# Altium footprint library PcbLib1.PcbLib: 26 footprints (part 2 of 2)
Each footprint in its own frame and in the unit in brackets; x right, y up, seen from the top. Pads: shape width x height; smd on the part's side, far side on the other; paste and mask are expansions set on the pad; w line width, h text height; cw(c..) or ccw(c..) is an arc to the next point about the centre after c.
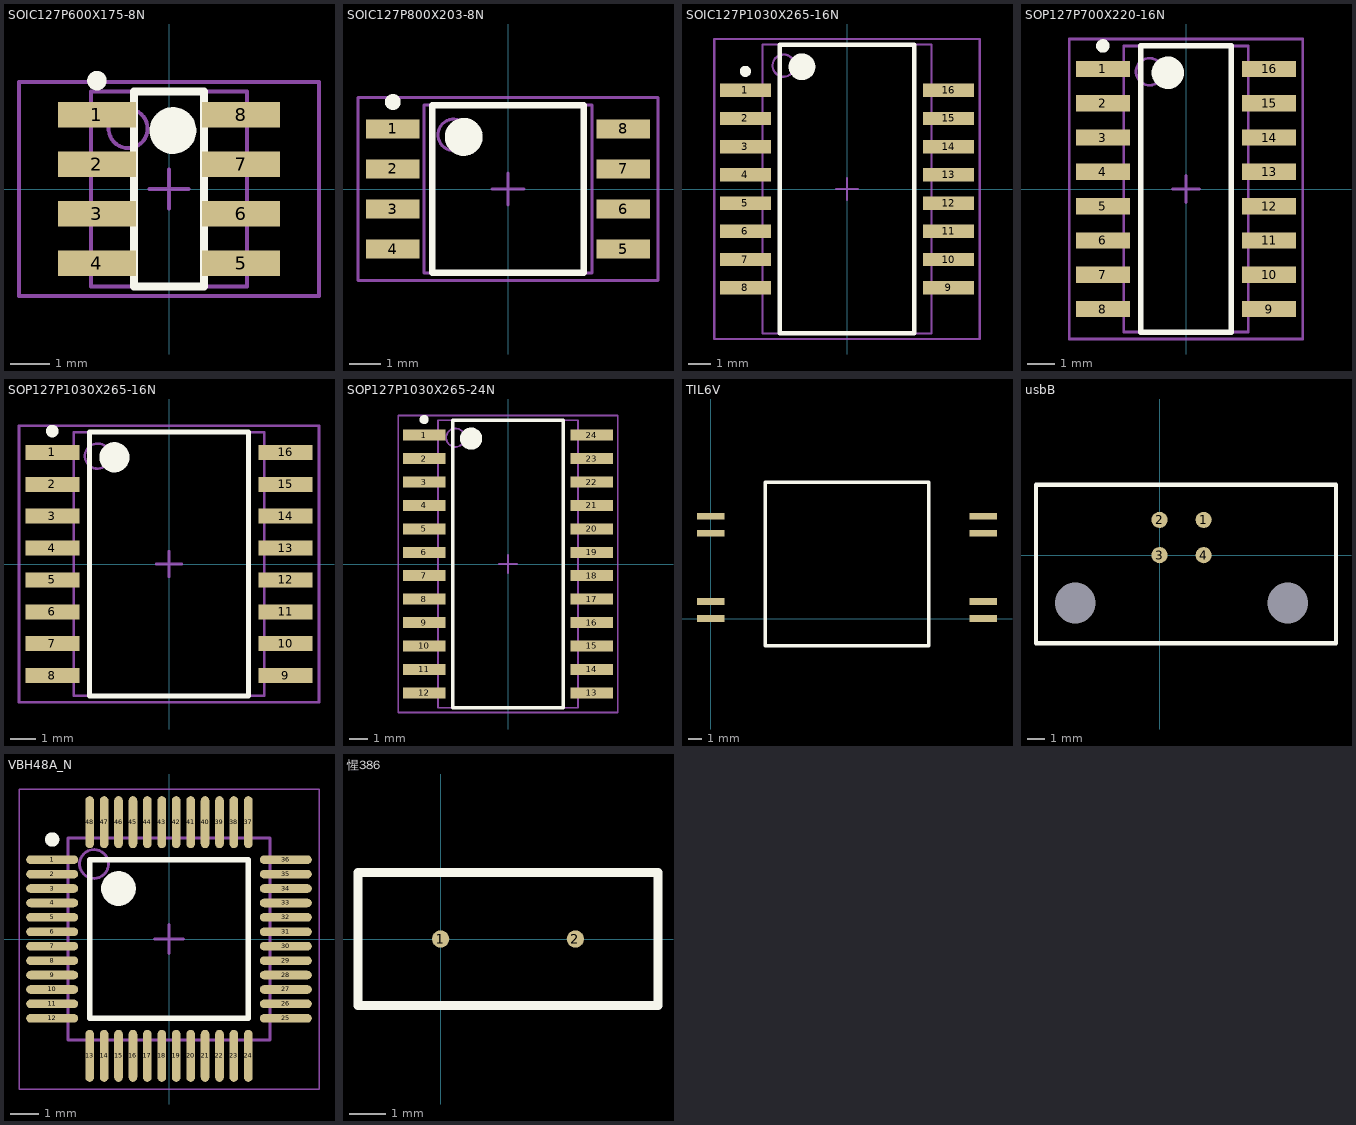
[diagram p1: the footprints below, top view; thin cyan lines are the x and y axes]

## SOIC127P600X175-8N [mm] "FM25L16"
height 1.75
pads (8):
  rect 2x0.65 smd: 1(-1.85,1.905) 2(-1.85,0.635) 3(-1.85,-0.635) 4(-1.85,-1.905) 5(1.85,-1.905) 6(1.85,-0.635) 7(1.85,0.635) 8(1.85,1.905)
Top Overlay:
  circle w0.6: c0.1,1.5 r0.3
  circle w0.25: c-1.85,2.78 r0.125
  lines w0.2: -0.9,-2.5 0.9,-2.5 0.9,2.5 -0.9,2.5 -0.9,-2.5
Mechanical 13:
  circle w0.1: c-1.05,1.55 r0.5
  lines w0.1: -2,-2.5 2,-2.5 2,2.5 -2,2.5 -2,-2.5
Mechanical 15:
  lines w0.1: -0.5,0 0.5,0 ; 0,-0.5 0,0.5 ; -3.85,-2.75 3.85,-2.75 3.85,2.75 -3.85,2.75 -3.85,-2.75
3D body: height 1.75, standoff 0.1, extent -2,-2.5 2,2.5

## SOIC127P800X203-8N [mm] "FM25V20"
height 2.03
pads (8):
  rect 1.7x0.6 smd: 1(-3.65,1.905) 2(-3.65,0.635) 3(-3.65,-0.635) 4(-3.65,-1.905) 5(3.65,-1.905) 6(3.65,-0.635) 7(3.65,0.635) 8(3.65,1.905)
Top Overlay:
  circle w0.6: c-1.4,1.65 r0.3
  circle w0.25: c-3.65,2.755 r0.125
  lines w0.2: -2.4,-2.65 2.4,-2.65 2.4,2.65 -2.4,2.65 -2.4,-2.65
Mechanical 13:
  circle w0.1: c-1.715,1.715 r0.5
  lines w0.1: -2.665,-2.665 2.665,-2.665 2.665,2.665 -2.665,2.665 -2.665,-2.665
Mechanical 15:
  lines w0.1: -0.5,0 0.5,0 ; 0,-0.5 0,0.5 ; -4.75,-2.9 4.75,-2.9 4.75,2.9 -4.75,2.9 -4.75,-2.9
3D body: height 2.03, standoff 0.25, extent -2.665,-2.665 2.665,2.665

## SOIC127P1030X265-16N [mm] "ADUM4160"
height 2.65
pads (16):
  rect 2.3x0.6 smd: 1(-4.575,4.445) 2(-4.575,3.175) 3(-4.575,1.905) 4(-4.575,0.635) 5(-4.575,-0.635) 6(-4.575,-1.905) 7(-4.575,-3.175) 8(-4.575,-4.445) 9(4.575,-4.445) 10(4.575,-3.175) 11(4.575,-1.905) 12(4.575,-0.635) 13(4.575,0.635) 14(4.575,1.905) 15(4.575,3.175) 16(4.575,4.445)
Top Overlay:
  circle w0.6: c-2.025,5.5 r0.3
  circle w0.25: c-4.575,5.295 r0.125
  lines w0.2: -3.025,-6.5 3.025,-6.5 3.025,6.5 -3.025,6.5 -3.025,-6.5
Mechanical 13:
  circle w0.1: c-2.85,5.55 r0.5
  lines w0.1: -3.8,-6.5 3.8,-6.5 3.8,6.5 -3.8,6.5 -3.8,-6.5
Mechanical 15:
  lines w0.1: -0.5,0 0.5,0 ; 0,-0.5 0,0.5 ; -5.975,-6.75 5.975,-6.75 5.975,6.75 -5.975,6.75 -5.975,-6.75
3D body: height 2.65, standoff 0.2, extent -3.8,-6.5 3.8,6.5

## SOP127P700X220-16N [mm] "ACPL247"
height 2.2
pads (16):
  rect 2x0.6 smd: 1(-3.075,4.445) 2(-3.075,3.175) 3(-3.075,1.905) 4(-3.075,0.635) 5(-3.075,-0.635) 6(-3.075,-1.905) 7(-3.075,-3.175) 8(-3.075,-4.445) 9(3.075,-4.445) 10(3.075,-3.175) 11(3.075,-1.905) 12(3.075,-0.635) 13(3.075,0.635) 14(3.075,1.905) 15(3.075,3.175) 16(3.075,4.445)
Top Overlay:
  circle w0.25: c-3.075,5.295 r0.125
  circle w0.6: c-0.675,4.3 r0.3
  lines w0.2: -1.675,-5.3 -1.675,5.3 1.675,5.3 1.675,-5.3 -1.675,-5.3
Mechanical 13:
  circle w0.1: c-1.35,4.34 r0.5
  lines w0.1: -2.3,-5.29 -2.3,5.29 2.3,5.29 2.3,-5.29 -2.3,-5.29
Mechanical 15:
  lines w0.1: -0.5,0 0.5,0 ; 0,-0.5 0,0.5 ; -4.325,-5.55 -4.325,5.55 4.325,5.55 4.325,-5.55 -4.325,-5.55
3D body: height 2.2, standoff 0.22, extent -2.3,-5.29 2.3,5.29

## SOP127P1030X265-16N [mm] "TJA1052i"
height 2.65
pads (16):
  rect 2.15x0.6 smd: 1(-4.65,4.445) 2(-4.65,3.175) 3(-4.65,1.905) 4(-4.65,0.635) 5(-4.65,-0.635) 6(-4.65,-1.905) 7(-4.65,-3.175) 8(-4.65,-4.445) 9(4.65,-4.445) 10(4.65,-3.175) 11(4.65,-1.905) 12(4.65,-0.635) 13(4.65,0.635) 14(4.65,1.905) 15(4.65,3.175) 16(4.65,4.445)
Top Overlay:
  circle w0.6: c-2.175,4.25 r0.3
  circle w0.25: c-4.65,5.295 r0.125
  lines w0.2: -3.175,-5.25 3.175,-5.25 3.175,5.25 -3.175,5.25 -3.175,-5.25
Mechanical 13:
  circle w0.1: c-2.85,4.3 r0.5
  lines w0.1: -3.8,-5.25 3.8,-5.25 3.8,5.25 -3.8,5.25 -3.8,-5.25
Mechanical 15:
  lines w0.1: -0.5,0 0.5,0 ; 0,-0.5 0,0.5 ; -5.975,-5.5 5.975,-5.5 5.975,5.5 -5.975,5.5 -5.975,-5.5
3D body: height 2.65, standoff 0.32, extent -3.8,-5.25 3.8,5.25

## SOP127P1030X265-24N [mm] "SOP, 24-Leads, Body 15,6x7,6mm (max), Pitch 1,27mm, IPC Medium Density"
height 2.65
pads (24):
  rect 2.3x0.6 smd: 1(-4.55,6.985) 2(-4.55,5.715) 3(-4.55,4.445) 4(-4.55,3.175) 5(-4.55,1.905) 6(-4.55,0.635) 7(-4.55,-0.635) 8(-4.55,-1.905) 9(-4.55,-3.175) 10(-4.55,-4.445) 11(-4.55,-5.715) 12(-4.55,-6.985) 13(4.55,-6.985) 14(4.55,-5.715) 15(4.55,-4.445) 16(4.55,-3.175) 17(4.55,-1.905) 18(4.55,-0.635) 19(4.55,0.635) 20(4.55,1.905) 21(4.55,3.175) 22(4.55,4.445) 23(4.55,5.715) 24(4.55,6.985)
Top Overlay:
  circle w0.6: c-2,6.8 r0.3
  circle w0.25: c-4.55,7.835 r0.125
  lines w0.2: -3,-7.8 3,-7.8 3,7.8 -3,7.8 -3,-7.8
Mechanical 13:
  circle w0.1: c-2.85,6.85 r0.5
  lines w0.1: -3.8,-7.8 3.8,-7.8 3.8,7.8 -3.8,7.8 -3.8,-7.8
Mechanical 15:
  lines w0.1: -0.5,0 0.5,0 ; 0,-0.5 0,0.5 ; -5.95,-8.05 5.95,-8.05 5.95,8.05 -5.95,8.05 -5.95,-8.05
3D body: height 2.65, standoff 0.25, extent -3.8,-7.8 3.8,7.8

## TIL6V [mm] "ÒÈË6Â"
height 6.5
pads (8):
  rect 2x0.5 all layers, no hole: 1(0,0) 2(0,1.25) 3(0,6.25) 4(0,7.5) 5(20,7.5) 6(20,6.25) 7(20,1.25) 8(20,0)
Top Overlay:
  lines w0.254: 4,-2 16,-2 16,10 4,10 4,-2

## usbB [mm]
height 11.2
pads (6):
  round 0 hole 2.3: 0(-4.77,-2.71) 0(7.27,-2.71)
  round 0.92 all layers, no hole: 1(2.5,2) 2(0,2) 3(0,0) 4(2.5,0)
Top Overlay:
  lines w0.254: -7,-5 10,-5 10,4 -7,4 -7,-5

## VBH48A_N [mm] "DP83848C"
height 1.6
pads (48):
  oval 1.8x0.3 smd: 1(-4.05,2.75) 2(-4.05,2.25) 3(-4.05,1.75) 4(-4.05,1.25) 5(-4.05,0.75) 6(-4.05,0.25) 7(-4.05,-0.25) 8(-4.05,-0.75) 9(-4.05,-1.25) 10(-4.05,-1.75) 11(-4.05,-2.25) 12(-4.05,-2.75) 25(4.05,-2.75) 26(4.05,-2.25) 27(4.05,-1.75) 28(4.05,-1.25) 29(4.05,-0.75) 30(4.05,-0.25) 31(4.05,0.25) 32(4.05,0.75) 33(4.05,1.25) 34(4.05,1.75) 35(4.05,2.25) 36(4.05,2.75)
  oval 0.3x1.8 smd: 13(-2.75,-4.05) 14(-2.25,-4.05) 15(-1.75,-4.05) 16(-1.25,-4.05) 17(-0.75,-4.05) 18(-0.25,-4.05) 19(0.25,-4.05) 20(0.75,-4.05) 21(1.25,-4.05) 22(1.75,-4.05) 23(2.25,-4.05) 24(2.75,-4.05) 37(2.75,4.05) 38(2.25,4.05) 39(1.75,4.05) 40(1.25,4.05) 41(0.75,4.05) 42(0.25,4.05) 43(-0.25,4.05) 44(-0.75,4.05) 45(-1.25,4.05) 46(-1.75,4.05) 47(-2.25,4.05) 48(-2.75,4.05)
Top Overlay:
  circle w0.6: c-1.75,1.75 r0.3
  circle w0.25: c-4.05,3.45 r0.125
  lines w0.2: -2.75,-2.75 2.75,-2.75 2.75,2.75 -2.75,2.75 -2.75,-2.75
Mechanical 13:
  circle w0.1: c-2.6,2.6 r0.5
  lines w0.1: -3.5,-3.5 3.5,-3.5 3.5,3.5 -3.5,3.5 -3.5,-3.5
Mechanical 15:
  lines w0.05: -5.2,-5.2 5.2,-5.2 5.2,5.2 -5.2,5.2 -5.2,-5.2
  lines w0.1: -0.5,0 0.5,0 ; 0,-0.5 0,0.5
3D body: height 1.6, standoff 0, extent -3.5,-3.5 3.5,3.5

## 惺386 [mm]
height 20
pads (2):
  round 0.48 all layers, no hole: 1(0,0) 2(3.75,0)
Top Overlay:
  lines w0.254: -2.3,-1.85 -2.3,1.85 6.05,1.85 6.05,-1.85 -2.3,-1.85